# Altium footprint library SensorShield.PcbLib: 6 footprints
Each footprint in its own frame and in the unit in brackets; x right, y up, seen from the top. Pads: shape width x height; smd on the part's side, far side on the other; paste and mask are expansions set on the pad; w line width, h text height; cw(c..) or ccw(c..) is an arc to the next point about the centre after c.
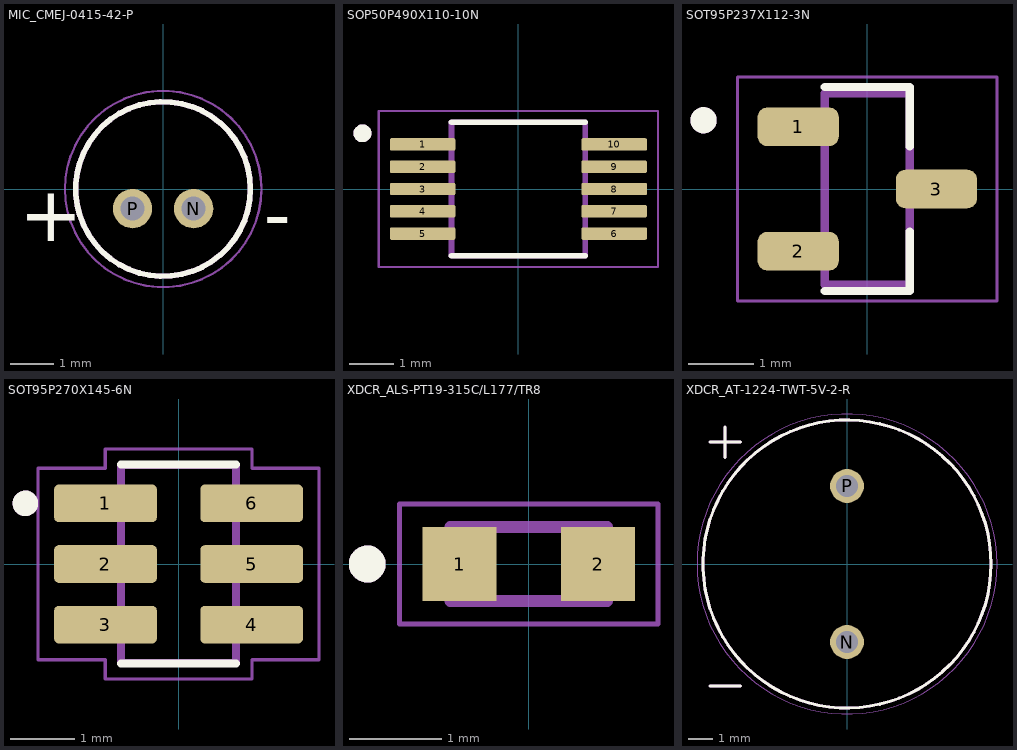
[diagram p0: the footprints below, top view; thin cyan lines are the x and y axes]

## MIC_CMEJ-0415-42-P [mm]
pads (2):
  round 0.9 hole 0.55: N(0.7,-0.45) P(-0.7,-0.45)
Top Overlay:
  circle w0.127: c0,0 r2
  text "+" at -3.3,-1.2 h1.27
  text "-" at 2.3,-1.2 h1.27
Mechanical 13:
  circle w0.127: c0,0 r2
  text "+" at -3.3,-1.2 h1.27
  text "-" at 2.3,-1.2 h1.27
Mechanical 15:
  circle w0.05: c0,0 r2.25

## SOP50P490X110-10N [mm]
pads (10):
  rrect25% 1.47x0.28 smd: 1(-2.15,1) 2(-2.15,0.5) 3(-2.15,0) 4(-2.15,-0.5) 5(-2.15,-1) 6(2.15,-1) 7(2.15,-0.5) 8(2.15,0) 9(2.15,0.5) 10(2.15,1)
Top Overlay:
  circle w0.2: c-3.5,1.25 r0.1
  lines w0.127: -1.5,-1.5 1.5,-1.5 ; -1.5,1.5 1.5,1.5
Mechanical 13:
  circle w0.2: c-3.5,1.25 r0.1
  lines w0.127: -1.5,-1.5 -1.5,1.5 1.5,1.5 1.5,-1.5 -1.5,-1.5
Mechanical 15:
  lines w0.05: -3.135,-1.75 -3.135,1.75 3.135,1.75 3.135,-1.75 -3.135,-1.75

## SOT95P237X112-3N [mm]
pads (3):
  rrect50% 1.24x0.59 smd: 1(-1.055,0.95) 2(-1.055,-0.95) 3(1.055,0)
Top Overlay:
  circle w0.2: c-2.5,1.05 r0.1
  lines w0.127: -0.65,-1.559 0.65,-1.559 0.65,-0.65 ; -0.65,1.559 0.65,1.559 0.65,0.65
Mechanical 13:
  circle w0.2: c-2.5,1.05 r0.1
  lines w0.127: -0.65,-1.46 -0.65,1.46 0.65,1.46 0.65,-1.46 -0.65,-1.46
Mechanical 15:
  lines w0.05: -1.98,-1.71 1.98,-1.71 1.98,1.71 -1.98,1.71 -1.98,-1.71

## SOT95P270X145-6N [mm]
pads (6):
  rrect25% 1.61x0.59 smd: 1(-1.145,0.95) 2(-1.145,0) 3(-1.145,-0.95) 4(1.145,-0.95) 5(1.145,0) 6(1.145,0.95)
Top Overlay:
  circle w0.2: c-2.4,0.95 r0.1
  lines w0.127: -0.9,-1.559 0.9,-1.559 ; -0.9,1.559 0.9,1.559
Mechanical 13:
  circle w0.2: c-2.4,0.95 r0.1
  lines w0.127: -0.9,-1.55 -0.9,1.55 0.9,1.55 0.9,-1.55 -0.9,-1.55
Mechanical 15:
  lines w0.05: -2.2,-1.5 -2.2,1.5 -1.15,1.5 -1.15,1.8 1.15,1.8 1.15,1.5 2.2,1.5 2.2,-1.5 1.15,-1.5 1.15,-1.8 -1.15,-1.8 -1.15,-1.5 -2.2,-1.5

## XDCR_ALS-PT19-315C/L177/TR8 [mm]
pads (2):
  rect 0.8x0.8 smd: 1(-0.75,0) 2(0.75,0)
Top Overlay:
  circle w0.2: c-1.75,0 r0.1
Mechanical 13:
  circle w0.2: c-1.75,0 r0.1
  lines w0.127: -0.85,-0.4 0.85,-0.4 0.85,0.4 -0.85,0.4 -0.85,-0.4
Mechanical 15:
  lines w0.05: -1.4,-0.65 -1.4,0.65 1.4,0.65 1.4,-0.65 -1.4,-0.65
3D body "step_temp.STEP": height 0.6, standoff 0, extent -0.85,-0.4 0.85,0.4

## XDCR_AT-1224-TWT-5V-2-R [mm]
pads (2):
  round 1.408 hole 0.9: N(0,-3.25) P(0,3.25)
Top Overlay:
  circle w0.127: c0,0 r6
  lines w0.127: -5.715,-5.08 -4.445,-5.08 ; -5.715,5.08 -4.445,5.08 ; -5.08,4.445 -5.08,5.715
Mechanical 13:
  circle w0.127: c0,0 r6
  lines w0.127: -5.715,-5.08 -4.445,-5.08 ; -5.715,5.08 -4.445,5.08 ; -5.08,4.445 -5.08,5.715
Mechanical 15:
  circle w0.05: c0,0 r6.25
3D body "step_temp.STEP": height 6, standoff -6, extent -5.999,-12.8 8.751,0.05